# Altium footprint library Capacitors_MT_Library.PcbLib: 2 footprints
Each footprint in its own frame and in the unit in brackets; x right, y up, seen from the top. Pads: shape width x height; smd on the part's side, far side on the other; paste and mask are expansions set on the pad; w line width, h text height; cw(c..) or ccw(c..) is an arc to the next point about the centre after c.
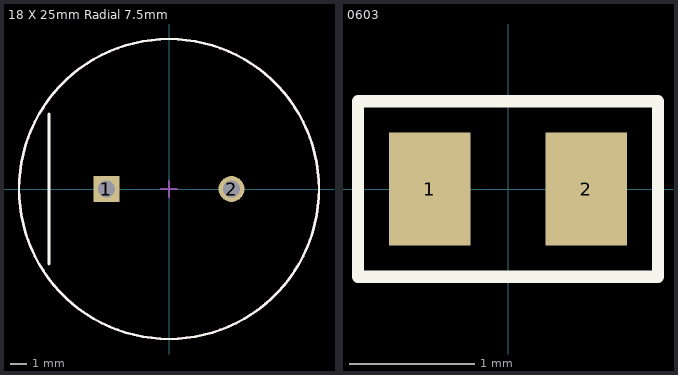
[diagram p0: the footprints below, top view; thin cyan lines are the x and y axes]

## 18 X 25mm Radial 7.5mm [mm] "(18 X 25mm) Radial 7.5mm Cap Aluminum 2200uF 35V 20% 2740mA 5000h 105°C Ammo Pack"
height 25
pads (2):
  rect 1.55x1.55 hole 1 paste-1000 mask+0: 1(-3.75,0)
  round 1.55 hole 1 paste-1000 mask+0: 2(3.75,0)
Top Overlay:
  circle w0.15: c0,0 r9
  lines w0.2: -7.2,-4.5 -7.2,4.5
Mechanical 10:
  text ".Designator" at -2.413,-5.842 h1
Mechanical 12:
  circle w0.15: c0,0 r9
Mechanical 15:
  lines w0.1: -0.5,0 0.5,0 ; 0,-0.5 0,0.5

## 0603 [mm]
height 0.8
pads (2):
  rect 0.65x0.9 smd: 1(-0.625,0) 2(0.625,0)
Top Overlay:
  lines w0.1: -1.2,-0.7 1.2,-0.7 1.2,0.7 -1.2,0.7 -1.2,-0.7
3D body "C_0603.step": height 0.8, standoff 0, extent -0.8,-0.4 0.8,0.4